# Altium footprint library PCBLib.PcbLib: 19 footprints (part 1 of 2)
Each footprint in its own frame and in the unit in brackets; x right, y up, seen from the top. Pads: shape width x height; smd on the part's side, far side on the other; paste and mask are expansions set on the pad; w line width, h text height; cw(c..) or ccw(c..) is an arc to the next point about the centre after c.
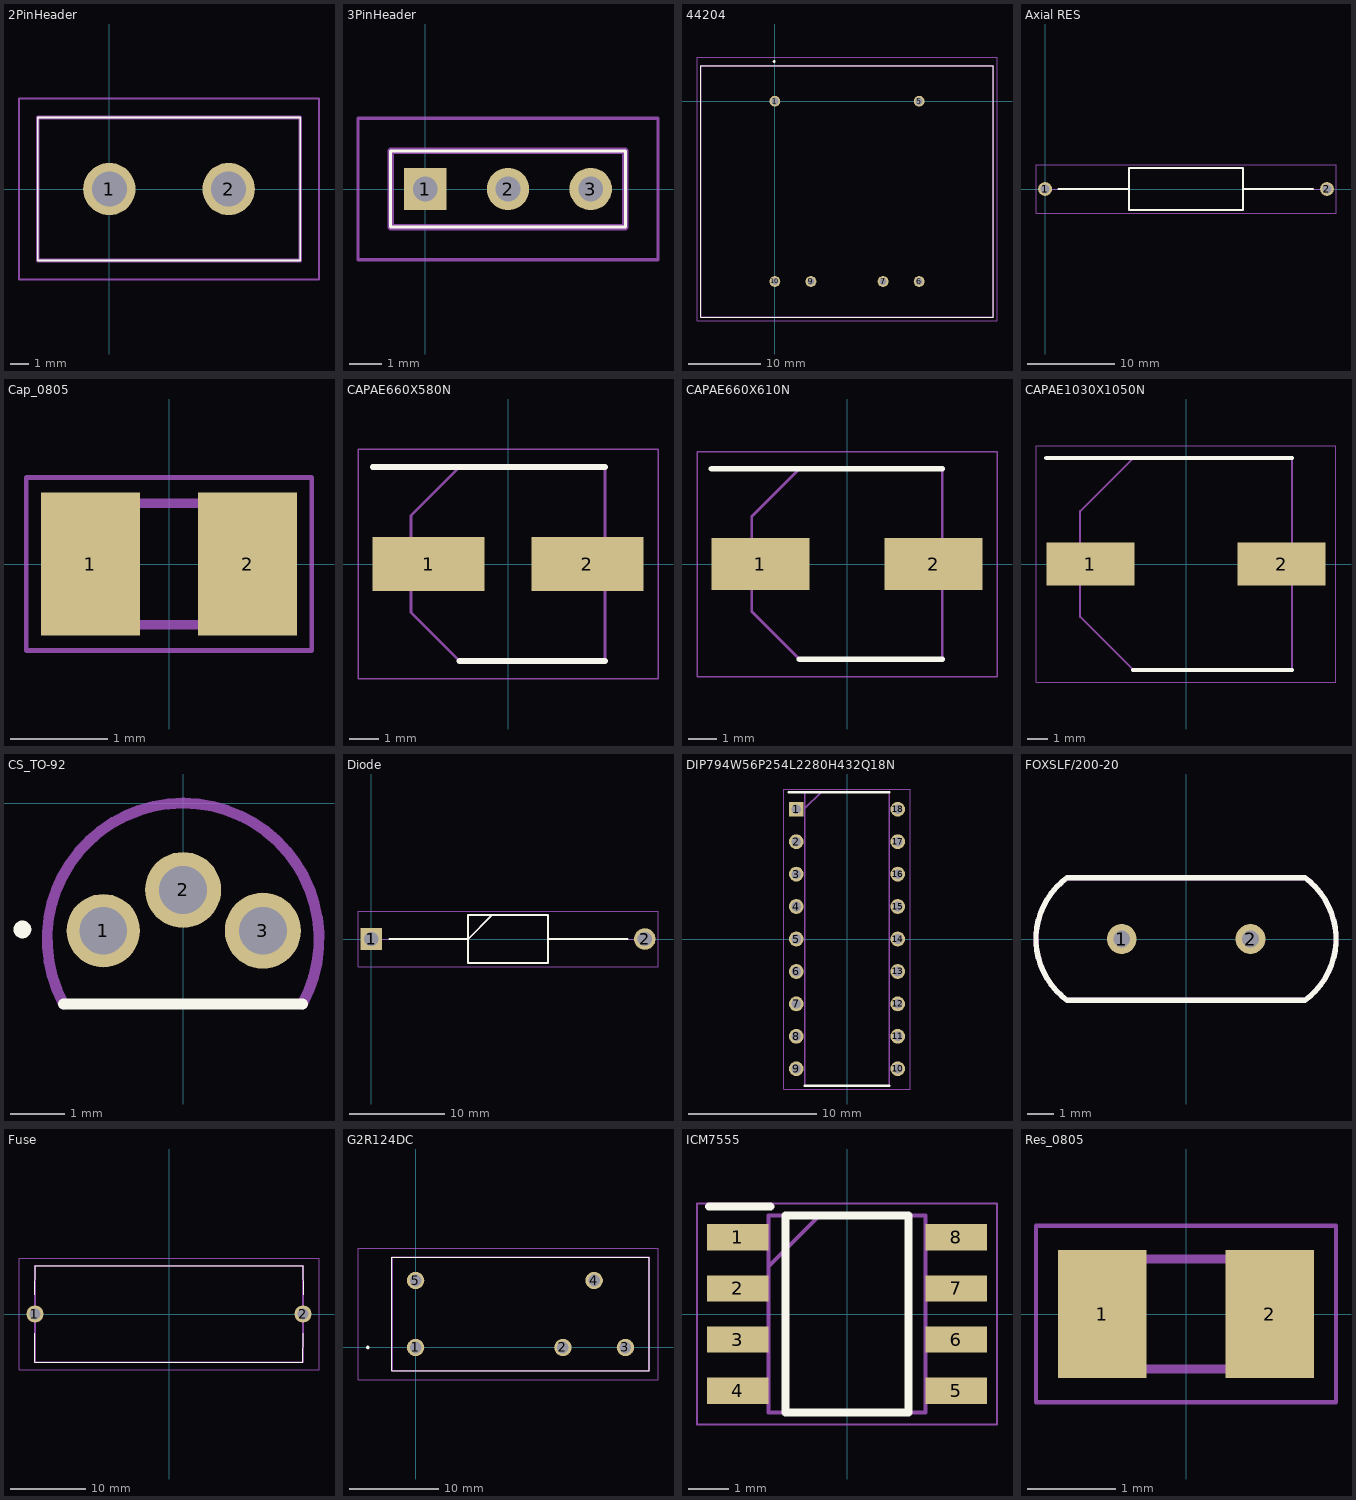
[diagram p0: the footprints below, top view; thin cyan lines are the x and y axes]

## 2PinHeader [mm]
pads (2):
  round 2.79 hole 1.86: 1(0,0) 2(6.35,0)
Top Overlay:
  lines w0.1: -3.81,-3.81 10.16,-3.81 10.16,3.81 -3.81,3.81 -3.81,-3.81
Mechanical 13:
  lines w0.2: -3.81,-3.81 10.16,-3.81 10.16,3.81 -3.81,3.81 -3.81,-3.81
Mechanical 15:
  lines w0.1: -4.81,-4.81 11.16,-4.81 11.16,4.81 -4.81,4.81 -4.81,-4.81
3D body "0010845020.stp": height 14.32, standoff -5, extent -3.81,-3.81 10.16,3.81

## 3PinHeader [mm]
pads (3):
  rect 1.303x1.303 hole 0.76: 1(0,0)
  round 1.303 hole 0.76: 2(2.54,0) 3(5.08,0)
Top Overlay:
  lines w0.1: -1.065,-1.17 -1.065,1.17 6.145,1.17 6.145,-1.17 -1.065,-1.17
Mechanical 13:
  lines w0.2: -1.065,-1.17 -1.065,1.17 6.145,1.17 6.145,-1.17 -1.065,-1.17
Mechanical 15:
  lines w0.1: -2.065,-2.17 -2.065,2.17 7.145,2.17 7.145,-2.17 -2.065,-2.17
3D body "5-146278-3.stp": height 8.23, standoff -5, extent -1.065,-1.17 6.145,1.17

## 44204 [mm]
pads (6):
  round 1.5 hole 1: 1(0,0) 5(20,0) 6(20,-25) 7(15,-25) 9(5,-25) 10(0,-25)
Top Overlay:
  lines w0.1: -10.3,-29.95 30.3,-29.95 30.3,4.95 -10.3,4.95 -10.3,-29.95
  lines w0.2: -0.2,5.5 ccw(c-0.1,5.5) 0,5.5 ccw(c-0.1,5.5) -0.2,5.5
Mechanical 13:
  lines w0.2: -10.3,-29.95 30.3,-29.95 30.3,4.95 -10.3,4.95 -10.3,-29.95
Mechanical 15:
  lines w0.1: -10.8,-30.45 30.8,-30.45 30.8,6.1 -10.8,6.1 -10.8,-30.45
3D body "44204.stp": height 28.2, standoff -5, extent -10.3,-29.95 30.3,4.95

## Axial RES [mm]
pads (2):
  round 1.575 hole 1.05: 1(0,0) 2(32.2,0)
Top Overlay:
  lines w0.2: 1.524,0 9.6,0 ; 22.606,0 30.607,0 ; 9.6,-2.4 22.6,-2.4 22.6,2.4 9.6,2.4 9.6,-2.4
Mechanical 13:
  lines w0.1: 0,0 9.6,0 ; 22.6,0 32.2,0 ; 9.6,-2.4 22.6,-2.4 22.6,2.4 9.6,2.4 9.6,-2.4
Mechanical 15:
  lines w0.05: -1.038,-2.75 33.237,-2.75 33.237,2.75 -1.038,2.75 -1.038,-2.75
3D body "AC03000001007JAC00.stp": height 4.8, standoff -4.8, extent -0.412,-2.4 32.615,2.4

## Cap_0805 [mm]
pads (2):
  rect 1.02x1.47 smd: 1(-0.81,0) 2(0.81,0)
Mechanical 13:
  lines w0.1: -1.005,-0.625 1.005,-0.625 1.005,0.625 -1.005,0.625 -1.005,-0.625
Mechanical 15:
  lines w0.05: -1.47,-0.89 1.47,-0.89 1.47,0.89 -1.47,0.89 -1.47,-0.89
3D body "08055A101JAT2A.stp": height 0.94, standoff 0, extent -1.005,-0.625 1.005,0.625

## CAPAE660X580N [mm]
pads (2):
  rect 3.8x1.85 smd: 1(-2.7,0) 2(2.7,0)
Top Overlay:
  lines w0.2: -4.6,3.3 3.3,3.3 ; -1.65,-3.3 3.3,-3.3
Mechanical 13:
  lines w0.1: -3.3,-1.65 -1.65,-3.3 3.3,-3.3 3.3,3.3 -1.65,3.3 -3.3,1.65 -3.3,-1.65
Mechanical 15:
  lines w0.05: -5.1,-3.9 -5.1,3.9 5.1,3.9 5.1,-3.9 -5.1,-3.9
3D body "CS1H220M-CRE54.stp": height 5.8, standoff 0, extent -3.9,-3.4 3.9,3.4

## CAPAE660X610N [mm]
pads (2):
  rect 3.4x1.8 smd: 1(-3,0) 2(3,0)
Top Overlay:
  lines w0.2: -4.7,3.3 3.3,3.3 ; -1.65,-3.3 3.3,-3.3
Mechanical 13:
  lines w0.1: -3.3,-1.65 -3.3,1.65 -1.65,3.3 3.3,3.3 3.3,-3.3 -1.65,-3.3 -3.3,-1.65
Mechanical 15:
  lines w0.05: -5.2,-3.9 5.2,-3.9 5.2,3.9 -5.2,3.9 -5.2,-3.9
3D body "EEE-FT1V101AP.stp": height 6.1, standoff 0, extent -3.9,-3.4 3.9,3.4

## CAPAE1030X1050N [mm]
pads (2):
  rect 4.3x2.1 smd: 1(-4.65,0) 2(4.65,0)
Top Overlay:
  lines w0.2: -6.8,5.15 5.15,5.15 ; -2.575,-5.15 5.15,-5.15
Mechanical 13:
  lines w0.1: -5.15,-2.575 -2.575,-5.15 5.15,-5.15 5.15,5.15 -2.575,5.15 -5.15,2.575 -5.15,-2.575
Mechanical 15:
  lines w0.05: -7.3,-5.75 -7.3,5.75 7.3,5.75 7.3,-5.75 -7.3,-5.75
3D body "EEE-FT1E102UP.stp": height 10.5, standoff 0, extent -6,-5.25 6,5.25

## CS_TO-92 [mm]
pads (3):
  round 1.35 hole 0.88: 1(-1.47,-2.35)
  round 1.4 hole 0.88: 2(0,-1.6) 3(1.47,-2.35)
Top Overlay:
  circle w0.2: c-2.96,-2.328 r0.063
  lines w0.2: -2.2,-3.7 2.2,-3.7
Mechanical 13:
  lines w0.2: -2.201,-3.699 cw(c0,-2.504) 2.199,-3.703

## Diode [mm]
pads (2):
  rect 2.25x2.25 hole 1.5: 1(0,0)
  round 2.25 hole 1.5: 2(28.6,0)
Top Overlay:
  lines w0.2: 1.891,0 10.033,0 ; 10.125,0 12.65,2.525 ; 18.475,0 26.797,0 ; 10.125,-2.525 18.475,-2.525 18.475,2.525 10.125,2.525 10.125,-2.525
Mechanical 13:
  lines w0.1: 0,0 10.125,0 12.65,2.525 ; 18.475,0 28.6,0 ; 10.125,-2.525 18.475,-2.525 18.475,2.525 10.125,2.525 10.125,-2.525
Mechanical 15:
  lines w0.05: -1.375,-2.875 29.975,-2.875 29.975,2.875 -1.375,2.875 -1.375,-2.875
3D body "BY299.stp": height 5.3, standoff -5.3, extent -0.645,-2.65 29.2,2.65

## DIP794W56P254L2280H432Q18N [mm]
pads (18):
  rect 1.16x1.16 hole 0.76: 1(-3.97,10.16)
  round 1.16 hole 0.76: 2(-3.97,7.62) 3(-3.97,5.08) 4(-3.97,2.54) 5(-3.97,0) 6(-3.97,-2.54) 7(-3.97,-5.08) 8(-3.97,-7.62) 9(-3.97,-10.16) 10(3.97,-10.16) 11(3.97,-7.62) 12(3.97,-5.08) 13(3.97,-2.54) 14(3.97,0) 15(3.97,2.54) 16(3.97,5.08) 17(3.97,7.62) 18(3.97,10.16)
Top Overlay:
  lines w0.2: -4.55,11.495 3.3,11.495 ; -3.3,-11.495 3.3,-11.495
Mechanical 13:
  lines w0.1: -3.3,10.225 -2.03,11.495 ; -3.3,-11.495 -3.3,11.495 3.3,11.495 3.3,-11.495 -3.3,-11.495
Mechanical 15:
  lines w0.05: -4.96,-11.745 -4.96,11.745 4.96,11.745 4.96,-11.745 -4.96,-11.745
3D body "PIC16F628A-I_P.stp": height 4.32, standoff -3.5, extent -4.11,-11.4 4.11,11.4

## FOXSLF/200-20 [mm]
pads (2):
  round 1.13 hole 0.63: 1(-2.44,0) 2(2.44,0)
Top Overlay:
  lines w0.2: -4.5,-2.325 cw(c-2.816,0) -4.5,2.325 4.5,2.325 cw(c2.797,0) 4.499,-2.326 -4.5,-2.325
Mechanical 13:
  lines w0.2: -4.503,2.323 ccw(c-2.815,0) -4.499,-2.326 ; -4.5,-2.325 4.5,-2.325 ; -4.5,2.325 4.5,2.325 ; 4.498,2.326 cw(c2.796,0) 4.502,-2.323

## Fuse [mm]
pads (2):
  round 2.25 hole 1.5: 1(-17.8,0) 2(17.8,0)
Top Overlay:
  lines w0.1: -17.8,-2.54 -17.8,-6.4 17.78,-6.4 17.8,-2.54 ; -17.8,2.54 -17.78,6.4 17.78,6.4 17.8,2.54
Mechanical 13:
  lines w0.2: -17.8,-6.4 -17.8,6.4 17.8,6.4 17.8,-6.4 -17.8,-6.4
Mechanical 15:
  lines w0.1: -19.925,-7.4 -19.925,7.4 19.925,7.4 19.925,-7.4 -19.925,-7.4
3D body "03540101ZXGY.stp": height 13.1, standoff -5, extent -18.445,-6.4 18.45,6.4

## G2R124DC [mm]
pads (5):
  round 1.95 hole 1.3: 1(0,0) 2(16.5,0) 3(23.5,0) 4(20,7.5) 5(0,7.5)
Top Overlay:
  lines w0.1: -2.65,-2.6 26.15,-2.6 26.15,10.1 -2.65,10.1 -2.65,-2.6
  lines w0.2: -5.45,0 cw(c-5.35,0) -5.25,0 cw(c-5.35,0) -5.45,0
Mechanical 13:
  lines w0.2: -2.65,-2.6 26.15,-2.6 26.15,10.1 -2.65,10.1 -2.65,-2.6
Mechanical 15:
  lines w0.1: -6.45,-3.6 27.15,-3.6 27.15,11.1 -6.45,11.1 -6.45,-3.6
3D body "G2R-1_24DC.stp": height 25.6, standoff -5, extent -2.65,-2.6 26.15,10.1

## ICM7555 [mm]
pads (8):
  rect 1.525x0.65 smd: 1(-2.712,1.905) 2(-2.712,0.635) 3(-2.712,-0.635) 4(-2.712,-1.905) 5(2.712,-1.905) 6(2.712,-0.635) 7(2.712,0.635) 8(2.712,1.905)
Top Overlay:
  lines w0.2: -3.429,2.667 -1.904,2.667 ; -1.524,-2.45 1.524,-2.45 1.524,2.45 -1.524,2.45 -1.524,-2.45
Mechanical 13:
  lines w0.1: -1.95,1.18 -0.68,2.45 ; -1.95,-2.45 1.95,-2.45 1.95,2.45 -1.95,2.45 -1.95,-2.45
Mechanical 15:
  lines w0.05: -3.725,-2.75 3.725,-2.75 3.725,2.75 -3.725,2.75 -3.725,-2.75
3D body "NE555DR.stp": height 1.75, standoff 0, extent -3,-2.45 3,2.45

## Res_0805 [mm]
pads (2):
  rect 1x1.45 smd: 1(-0.95,0) 2(0.95,0)
Mechanical 13:
  lines w0.1: -1,-0.625 -1,0.625 1,0.625 1,-0.625 -1,-0.625
Mechanical 15:
  lines w0.05: -1.7,-1 -1.7,1 1.7,1 1.7,-1 -1.7,-1
3D body "CPF0805B100KE.stp": height 0.65, standoff 0, extent -1,-0.625 1,0.625